# EAGLE library part WM7876 (library DAQTEST)
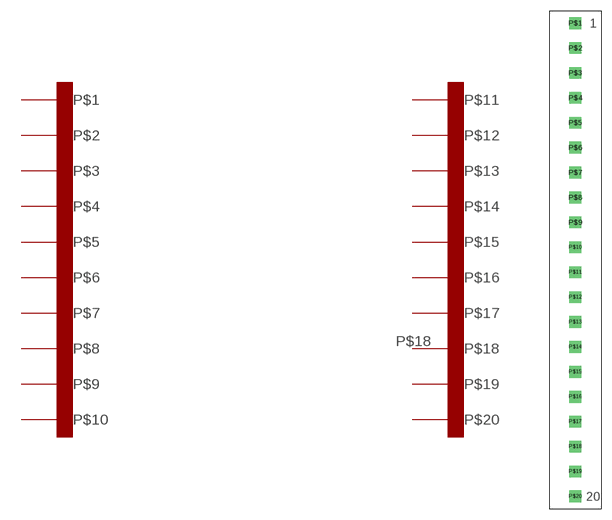
[diagram p4: symbol with the pads of 70X7.29MM_TERM_BLK; footprint 70X7.29MM_TERM_BLK]

Designator prefix -

## WM7876  [70X7.29MM_TERM_BLK]
P$1  P$1
P$2  P$2
P$3  P$3
P$4  P$4
P$5  P$5
P$6  P$6
P$7  P$7
P$8  P$8
P$9  P$9
P$10  P$10
P$11  P$11
P$12  P$12
P$13  P$13
P$14  P$14
P$15  P$15
P$16  P$16
P$17  P$17
P$18  P$18
P$19  P$19
P$20  P$20

## Footprint 70X7.29MM_TERM_BLK (pad centres in mm)
drill 1.1 square: P$1 0,33.25; P$2 0,29.75; P$3 0,26.25; P$4 0,22.75; P$5 0,19.25; P$6 0,15.75; P$7 0,12.25; P$8 0,8.75; P$9 0,5.25; P$10 0,1.75; P$11 0,-1.75; P$12 0,-5.25; P$13 0,-8.75; P$14 0,-12.25; P$15 0,-15.75; P$16 0,-19.25; P$17 0,-22.75; P$18 0,-26.25; P$19 0,-29.75; P$20 0,-33.25